# Altium footprint library Lib Marius.PcbLib: 393 footprints (part 21 of 25)
Each footprint in its own frame and in the unit in brackets; x right, y up, seen from the top. Pads: shape width x height; smd on the part's side, far side on the other; paste and mask are expansions set on the pad; w line width, h text height; cw(c..) or ccw(c..) is an arc to the next point about the centre after c.
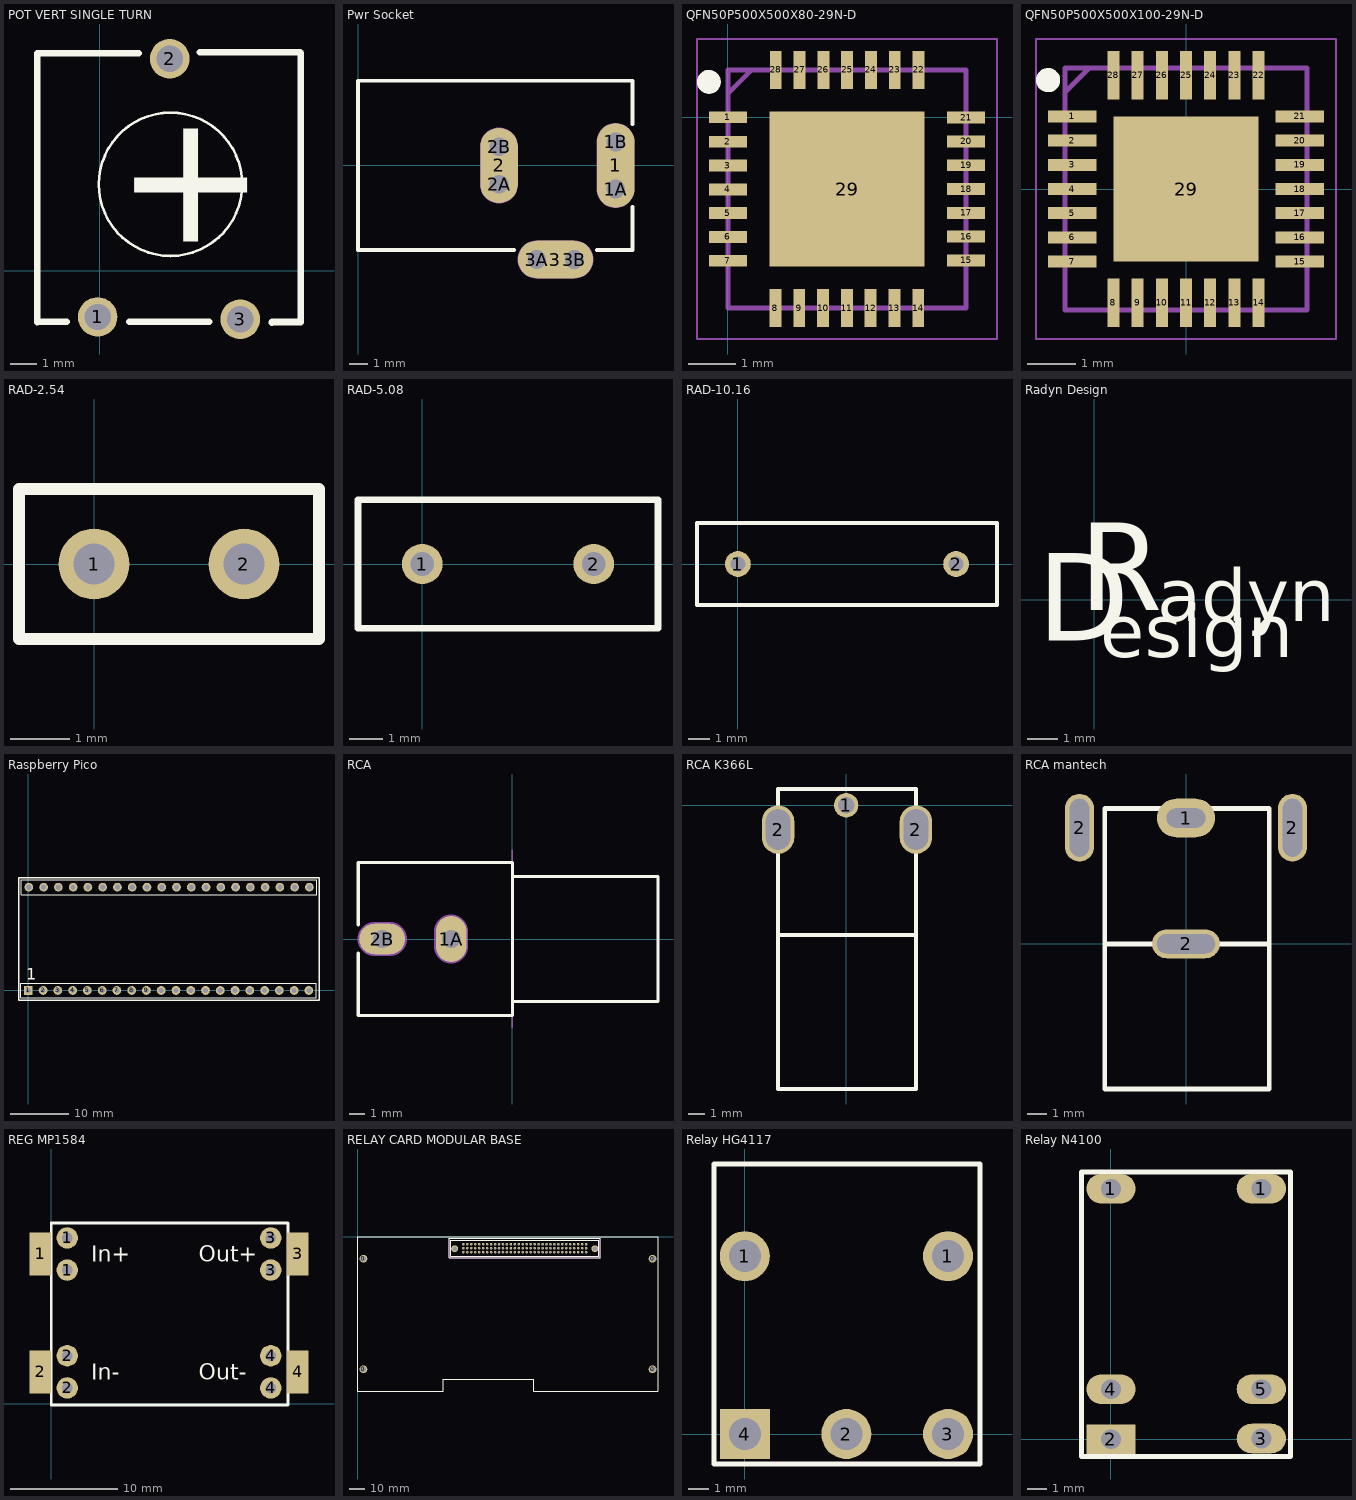
[diagram p20: the footprints below, top view; thin cyan lines are the x and y axes]

## POT VERT SINGLE TURN [mm] "Potentiometer Horisontal"
height 6
pads (3):
  round 1.5 hole 1: 1(-0.088,-1.755) 2(2.643,8.036) 3(5.32,-1.841)
Top Overlay:
  circle w0.1: c2.675,3.275 r2.718
  lines w0.254: -1.263,-1.938 -2.372,-1.938 -2.381,-1.948 -2.381,8.252 1.465,8.252 ; 1.111,-1.938 4.137,-1.938 ; 3.788,8.28 7.59,8.28 7.619,8.252 7.619,-1.948 6.524,-1.948 6.511,-1.962
  text "+" at 0.582,1.104 h5
3D body "POT Horizontal.STEP": height 6.2, standoff -3.6, extent -2.381,-1.948 7.619,8.252

## Pwr Socket [mm] "DC Power Jack, 2.5mm, KLD Series, PCB Mount"
pads (9):
  oval 2x4.5 all layers, no hole: 1(13.7,0)
  round 1.5 hole 1: 1A(13.7,-1.25) 1B(13.7,1.25) 2A(7.5,-1) 2B(7.5,1) 3A(9.5,-5) 3B(11.5,-5)
  oval 2x4 all layers, no hole: 2(7.5,0)
  oval 4x2 all layers, no hole: 3(10.5,-5)
Top Overlay:
  lines w0.2: 8.3,-4.5 0,-4.5 0,4.5 14.6,4.5 14.6,2.2 ; 12.7,-4.5 14.6,-4.5 14.6,-2.2
Mechanical 1:
  lines w1: 7.5,-1 7.5,1 ; 9.5,-5 11.5,-5 ; 13.7,-1.25 13.7,1.25
  text "Mech 2 - Clearance, move to internal plane if present" at 0.286,5.066 h0.3
  text "Mech 1 - Slot cut-out" at 0.286,5.566 h0.3
  text "Assign keep-out area to slot" at 0.286,6.566 h0.3
  text "Alert PCB fab to slot details" at 0.286,6.066 h0.3
Mechanical 2:
  lines w2.016: 7.5,-1 7.5,1 ; 9.5,-5 11.5,-5 ; 13.7,-1.25 13.7,1.25

## QFN50P500X500X80-29N-D [mm]
pads (29):
  rect 0.8x0.25 smd: 1(0,0) 2(0,-0.515) 3(0,-1.015) 4(0,-1.515) 5(0,-2.015) 6(0,-2.515) 7(0,-3.015) 15(5,-3.008) 16(5,-2.508) 17(5,-2.008) 18(5,-1.508) 19(5,-1.008) 20(5,-0.508) 21(5,-0.008)
  rect 0.25x0.8 smd: 8(0.997,-4.008) 9(1.497,-4.008) 10(1.997,-4.008) 11(2.497,-4.008) 12(2.997,-4.008) 13(3.497,-4.008) 14(3.997,-4.008) 22(4.003,0.992) 23(3.503,0.992) 24(3.003,0.992) 25(2.503,0.992) 26(2.003,0.992) 27(1.503,0.992) 28(1.003,0.992)
  rect 3.25x3.25 smd: 29(2.5,-1.508)
Top Overlay:
  circle w0.25: c-0.4,0.742 r0.125
Mechanical 13:
  lines w0.1: 0,0.492 0.5,0.992 ; 0,-4.008 0,0.992 5,0.992 5,-4.008 0,-4.008
Mechanical 15:
  lines w0.05: -0.65,-4.658 -0.65,1.642 5.65,1.642 5.65,-4.658 -0.65,-4.658
3D body "FT260Q-T.stp": height 0.8, standoff 0, extent -0.05,-4.058 5.05,1.042

## QFN50P500X500X100-29N-D [mm]
pads (29):
  rect 1x0.25 smd: 1(-2.35,1.5) 2(-2.35,1) 3(-2.35,0.5) 4(-2.35,0) 5(-2.35,-0.5) 6(-2.35,-1) 7(-2.35,-1.5) 15(2.35,-1.5) 16(2.35,-1) 17(2.35,-0.5) 18(2.35,0) 19(2.35,0.5) 20(2.35,1) 21(2.35,1.5)
  rect 0.25x1 smd: 8(-1.5,-2.35) 9(-1,-2.35) 10(-0.5,-2.35) 11(0,-2.35) 12(0.5,-2.35) 13(1,-2.35) 14(1.5,-2.35) 22(1.5,2.35) 23(1,2.35) 24(0.5,2.35) 25(0,2.35) 26(-0.5,2.35) 27(-1,2.35) 28(-1.5,2.35)
  rect 3x3 smd: 29(0,0)
Top Overlay:
  circle w0.25: c-2.85,2.25 r0.125
Mechanical 13:
  lines w0.1: -2.5,2 -2,2.5 ; -2.5,-2.5 -2.5,2.5 2.5,2.5 2.5,-2.5 -2.5,-2.5
Mechanical 15:
  lines w0.05: -3.1,-3.1 -3.1,3.1 3.1,3.1 3.1,-3.1 -3.1,-3.1
3D body "CP2103-GM.stp": height 1, standoff 0, extent -2.55,-2.55 2.55,2.55

## RAD-2.54 [mm] "Radial Cap, Thru-Hole; 2 Leads; 0.1 in Pin Spacing"
pads (2):
  round 1.2 hole 0.7: 1(0,0) 2(2.54,0)
Top Overlay:
  lines w0.2: -1.27,-1.27 3.81,-1.27 3.81,1.27 -1.27,1.27 -1.27,-1.27

## RAD-5.08 [mm] "Radial Cap, Thru-Hole; 2 Leads; 0.2 in Pin Spacing"
pads (2):
  round 1.2 hole 0.7: 1(0,0) 2(5.08,0)
Top Overlay:
  lines w0.2: -1.905,-1.905 6.985,-1.905 6.985,1.905 -1.905,1.905 -1.905,-1.905

## RAD-10.16 [mm] "Radial Cap, Thru-Hole; 2 Leads; 0.4 in Pin Spacing"
pads (2):
  round 1.2 hole 0.7: 1(0,0) 2(10.16,0)
Top Overlay:
  lines w0.2: -1.905,-1.905 12.065,-1.905 12.065,1.905 -1.905,1.905 -1.905,-1.905

## Radyn Design [mm] "Crystal, HC49, SMD & PTH Dual footprint"
Top Overlay:
  text "R" at -0.5,-1.3 h5
  text "D" at -1.9,-2.3 h5
  text "esign" at 0.2,-2.5 h3
  text "adyn" at 2.1,-1.3 h3

## Raspberry Pico [mm] "Pico"
pads (40):
  rect 1.5x1.5 hole 0.9: 1(0,0)
  round 1.5 hole 0.9: 2(2.54,0) 3(5.08,0) 4(7.62,0) 5(10.16,0) 6(12.7,0) 7(15.24,0) 8(17.78,0) 9(20.32,0) 10(22.86,0) 11(25.4,0) 12(27.94,0) 13(30.48,0) 14(33.02,0) 15(35.56,0) 16(38.1,0) 17(40.64,0) 18(43.18,0) 19(45.72,0) 20(48.26,0) 21(48.35,17.76) 22(45.81,17.76) 23(43.27,17.76) 24(40.73,17.76) 25(38.19,17.76) 26(35.65,17.76) 27(33.11,17.76) 28(30.57,17.76) 29(28.03,17.76) 30(25.49,17.76) 31(22.95,17.76) 32(20.41,17.76) 33(17.87,17.76) 34(15.33,17.76) 35(12.79,17.76) 36(10.25,17.76) 37(7.71,17.76) 38(5.17,17.76) 39(2.63,17.76) 40(0.09,17.76)
Top Overlay:
  lines w0.2: -1.27,-1.27 49.53,-1.27 49.53,1.27 0.635,1.27 -1.27,1.27 -1.27,-1.27 ; -1.18,16.49 -1.18,19.03 0.725,19.03 49.62,19.03 49.62,16.49 -1.18,16.49
  lines w0.254: -1.6,-1.7 -1.6,19.4 50,19.4 50,-1.7 -1.6,-1.7
  text "1" at -0.31,1.86 h2

## RCA [mm] "Two Conductor Jack (RCA), Right Angle, Thru-Hole, Body 10 x 10 x 13 mm (WxTxH)"
height 13
pads (2):
  oval 2x3 hole 1.2: 1A(-4,0)
  oval 3x2 hole 1.2: 2B(-8.496,0)
Top Overlay:
  lines w0.2: -10.075,5 -0.018,5 ; -10.057,-0.92 -10.057,-5 0,-5 0,5 ; -10.057,0.92 -10.057,5 ; 0,-4.065 9.5,-4.065 9.5,4.065 0,4.065
Mechanical 1:
  lines w0.1: 0,-5.8 0,5.8
  lines w1.2: -8.996,0 -7.996,0 ; -4,-0.5 -4,0.5
  text "PCB Edge" at -0.333,-4.618 h0.25
  text "Alert PCB fab to slot details" at -10.057,7.842 h0.3
  text "Slot 1.2x2.2mm, PTH" at -10.057,7.342 h0.3
  text "Assign keep-out area to slot" at -10.057,8.342 h0.3
  text "Mech 1 - Slot cut-out" at -10.057,6.842 h0.3
  text "Mech 2 - Clearance, move to internal plane if present" at -10.057,6.342 h0.3
Mechanical 2:
  lines w2.216: -8.996,0 -7.996,0 ; -4,-0.5 -4,0.5

## RCA K366L [mm] "RCA Right Angle, Thru-Hole"
height 13
pads (3):
  round 1.5 hole 1: 1(0,0)
  oval 2x3 hole 1.5 slot 2.5 at 90 deg: 2(-4.2,-1.5) 2(4.3,-1.5)
Top Overlay:
  lines w0.254: -4.2,-8 4.3,-8 ; -4.2,-17.5 -4.2,1 4.3,1 4.3,-17.5 -4.2,-17.5
3D body: height 10.37, standoff 2, extent -4.192,-17.5 4.192,-8
3D body: height 10, standoff 0, extent -4.2,-8 4.3,1

## RCA mantech [mm] "RCA Right Angle, Thru-Hole"
height 13
pads (4):
  oval 3x2 hole 1 slot 2 at 0 deg: 1(0,6.5)
  oval 1.5x3.5 hole 1 slot 3 at 90 deg: 2(-5.5,6) 2(5.5,6)
  oval 3.5x1.5 hole 1 slot 3 at 0 deg: 2(0,0)
Top Overlay:
  lines w0.254: -4.2,0 4.3,0 ; -4.2,-7.5 4.3,-7.5 4.3,7 -4.2,7 -4.2,-7.5
3D body: height 12, standoff 0, extent -4.2,0 4.3,7
3D body: height 10.37, standoff 2, extent -4,-7.25 4.383,-0.25

## REG MP1584 [mm] "Buck regula2tor board"
height 6
pads (12):
  rect 2x4 smd: 1(-1,14) 2(-1,3) 3(23,14) 4(23,3)
  round 2 hole 1: 1(1.5,12.5) 1(1.5,15.5) 2(1.5,1.5) 2(1.5,4.5) 3(20.5,12.5) 3(20.5,15.5) 4(20.5,1.5) 4(20.5,4.5)
Top Overlay:
  lines w0.254: 0,-0.1 22.1,-0.1 22.1,16.9 0,16.9 0,-0.1
  text "Out+" at 13.754,13.254 h1.5
  text "Out-" at 13.754,2.254 h1.5
  text "In-" at 3.754,2.254 h1.5
  text "In+" at 3.754,13.254 h1.5

## RELAY CARD MODULAR BASE [mm]
pads (102):
  round 5 hole 3.5: 0(3.5,-85) 0(3.5,-14) 0(189,-14) 0(189,-85)
  round 1.65 hole 1.1: A1(67.62,-9.808) A2(70.16,-9.808) A3(72.7,-9.808) A4(75.24,-9.808) A5(77.78,-9.808) A6(80.32,-9.808) A7(82.86,-9.808) A8(85.4,-9.808) A9(87.94,-9.808) A10(90.48,-9.808) A11(93.02,-9.808) A12(95.56,-9.808) A13(98.1,-9.808) A14(100.64,-9.808) A15(103.18,-9.808) A16(105.72,-9.808) A17(108.26,-9.808) A18(110.8,-9.808) A19(113.34,-9.808) A20(115.88,-9.808) A21(118.42,-9.808) A22(120.96,-9.808) A23(123.5,-9.808) A24(126.04,-9.808) A25(128.58,-9.808) A26(131.12,-9.808) A27(133.66,-9.808) A28(136.2,-9.808) A29(138.74,-9.808) A30(141.28,-9.808) A31(143.82,-9.808) A32(146.36,-9.808) B1(67.62,-7.268) B2(70.16,-7.268) B3(72.7,-7.268) B4(75.24,-7.268) B5(77.78,-7.268) B6(80.32,-7.268) B7(82.86,-7.268) B8(85.4,-7.268) B9(87.94,-7.268) B10(90.48,-7.268) B11(93.02,-7.268) B12(95.56,-7.268) B13(98.1,-7.268) B14(100.64,-7.268) B15(103.18,-7.268) B16(105.72,-7.268) B17(108.26,-7.268) B18(110.8,-7.268) B19(113.34,-7.268) B20(115.88,-7.268) B21(118.42,-7.268) B22(120.96,-7.268) B23(123.5,-7.268) B24(126.04,-7.268) B25(128.58,-7.268) B26(131.12,-7.268) B27(133.66,-7.268) B28(136.2,-7.268) B29(138.74,-7.268) B30(141.28,-7.268) B31(143.82,-7.268) B32(146.36,-7.268) C1(67.62,-4.728) C2(70.16,-4.728) C3(72.7,-4.728) C4(75.24,-4.728) C5(77.78,-4.728) C6(80.32,-4.728) C7(82.86,-4.728) C8(85.4,-4.728) C9(87.94,-4.728) C10(90.48,-4.728) C11(93.02,-4.728) C12(95.56,-4.728) C13(98.1,-4.728) C14(100.64,-4.728) C15(103.18,-4.728) C16(105.72,-4.728) C17(108.26,-4.728) C18(110.8,-4.728) C19(113.34,-4.728) C20(115.88,-4.728) C21(118.42,-4.728) C22(120.96,-4.728) C23(123.5,-4.728) C24(126.04,-4.728) C25(128.58,-4.728) C26(131.12,-4.728) C27(133.66,-4.728) C28(136.2,-4.728) C29(138.74,-4.728) C30(141.28,-4.728) C31(143.82,-4.728) C32(146.36,-4.728)
  round 4.35 hole 2.9: MH1(61.99,-7.568) MH2(151.99,-7.568)
Top Overlay:
  lines w0.1: 59.53,-12.518 154.45,-12.518 154.45,-2.018 59.53,-2.018 59.53,-12.518
  lines w0.3: 54.75,-99 0,-99 0,0 192.5,0 192.5,-99 ; 54.778,-98.972 54.778,-91.304 ; 54.83,-91.356 112.678,-91.356 112.678,-98.928 192.428,-98.928 ; 58.53,-13.518 155.45,-13.518 155.45,-1.018 58.53,-1.018 58.53,-13.518
Mechanical 13:
  lines w0.2: 59.53,-12.518 154.45,-12.518 154.45,-2.018 59.53,-2.018 59.53,-12.518
Mechanical 15:
  lines w0.1: 58.53,-13.518 155.45,-13.518 155.45,-1.018 58.53,-1.018 58.53,-13.518
3D body "09032962824.stp": height 11.63, standoff -2.87, extent 59.54,-12.521 154.44,-2.021

## Relay HG4117 [mm] "10A 12V SPST Relay"
height 17.7
pads (5):
  round 2.5 hole 1.6: 1(0,8.89) 1(10.16,8.89) 2(5.08,0) 3(10.16,0)
  rect 2.5x2.5 hole 1.6: 4(0,0)
Top Overlay:
  lines w0.254: -1.54,-1.5 -1.54,13.5 11.76,13.5 11.76,-1.5 -1.54,-1.5
3D body: height 17.7, standoff 0, extent -1.64,-1.5 11.76,13.6

## Relay N4100 [mm] "3A 12V STDP Relay"
height 10
pads (6):
  oval 2.5x1.5 hole 1: 1(0,12.7) 1(7.62,12.7) 3(7.62,0.04) 4(0,2.54) 5(7.62,2.54)
  rect 2.5x1.5 hole 1: 2(0,0)
Top Overlay:
  lines w0.254: -1.5,-0.86 9.1,-0.86 9.1,13.54 -1.5,13.54 -1.5,-0.86
3D body: height 10, standoff 0, extent -1.5,-0.86 9.1,13.54
3D body: height 11.5, standoff 0, extent -1.7,-1.06 9.3,13.74